# EAGLE library part ATMEGA328P-AUR (library FlashPCB_ICs)
ATmega328P-AUR - A low power, CMOS 8-bit microcontrollers based on the AVRÃ‚Â® enhanced RISC architecture Technical Specifications: SRAM : 512/1K/1K/2KBytes EEPROM: 256/512/512/1KBytes Component Search: [DATA SHEET NAME] <[FLASHPCB URL]> Datasheet: megaAVRÃ‚Â® Data Sheet <https://ww1.microchip.com/downloads/en/DeviceDoc/ATmega48A-PA-88A-PA-168A-PA-328-P-DS-DS40002061B.pdf>
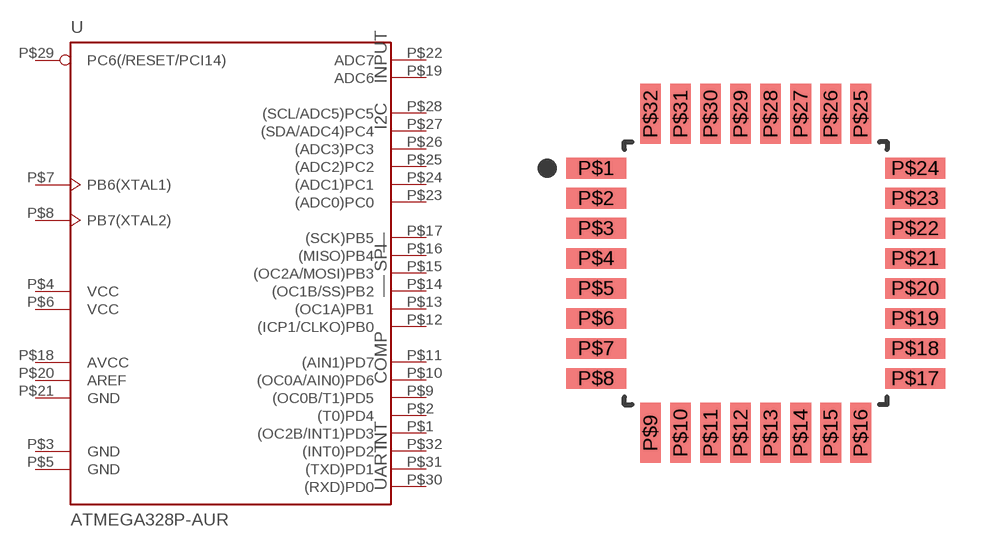
[diagram p12: symbol with the pads of 32-TQFP; footprint 32-TQFP]

Designator prefix U

## ATMEGA328P-AUR  [32-TQFP]
P$1  (OC2B/INT1)PD3
P$2  (T0)PD4
P$3  GND  pwr
P$4  VCC  pwr
P$5  GND  pwr
P$6  VCC  pwr
P$7  PB6(XTAL1)
P$8  PB7(XTAL2)
P$9  (OC0B/T1)PD5
P$10  (OC0A/AIN0)PD6
P$11  (AIN1)PD7
P$12  (ICP1/CLKO)PB0
P$13  (OC1A)PB1
P$14  (OC1B/SS)PB2
P$15  (OC2A/MOSI)PB3
P$16  (MISO)PB4
P$17  (SCK)PB5
P$18  AVCC  pwr
P$19  ADC6  in
P$20  AREF  pwr
P$21  GND  pwr
P$22  ADC7  in
P$23  (ADC0)PC0
P$24  (ADC1)PC1
P$25  (ADC2)PC2
P$26  (ADC3)PC3
P$27  (SDA/ADC4)PC4
P$28  (SCL/ADC5)PC5
P$29  PC6(/RESET/PCI14)  in
P$30  (RXD)PD0
P$31  (TXD)PD1
P$32  (INT0)PD2

## Footprint 32-TQFP (pad centres in mm)
smd 1.6 x 0.55: P$1 -4.25,2.8; P$2 -4.25,2; P$3 -4.25,1.2; P$4 -4.25,0.4; P$5 -4.25,-0.4; P$6 -4.25,-1.2; P$7 -4.25,-2; P$8 -4.25,-2.8; P$17 4.25,-2.8; P$18 4.25,-2; P$19 4.25,-1.2; P$20 4.25,-0.4; P$21 4.25,0.4; P$22 4.25,1.2; P$23 4.25,2; P$24 4.25,2.8
smd 0.55 x 1.6: P$9 -2.8,-4.25; P$10 -2,-4.25; P$11 -1.2,-4.25; P$12 -0.4,-4.25; P$13 0.4,-4.25; P$14 1.2,-4.25; P$15 2,-4.25; P$16 2.8,-4.25; P$25 2.8,4.25; P$26 2,4.25; P$27 1.2,4.25; P$28 0.4,4.25; P$29 -0.4,4.25; P$30 -1.2,4.25; P$31 -2,4.25; P$32 -2.8,4.25